# Altium footprint library Miscelaneos.PcbLib: 4 footprints
Each footprint in its own frame and in the unit in brackets; x right, y up, seen from the top. Pads: shape width x height; smd on the part's side, far side on the other; paste and mask are expansions set on the pad; w line width, h text height; cw(c..) or ccw(c..) is an arc to the next point about the centre after c.
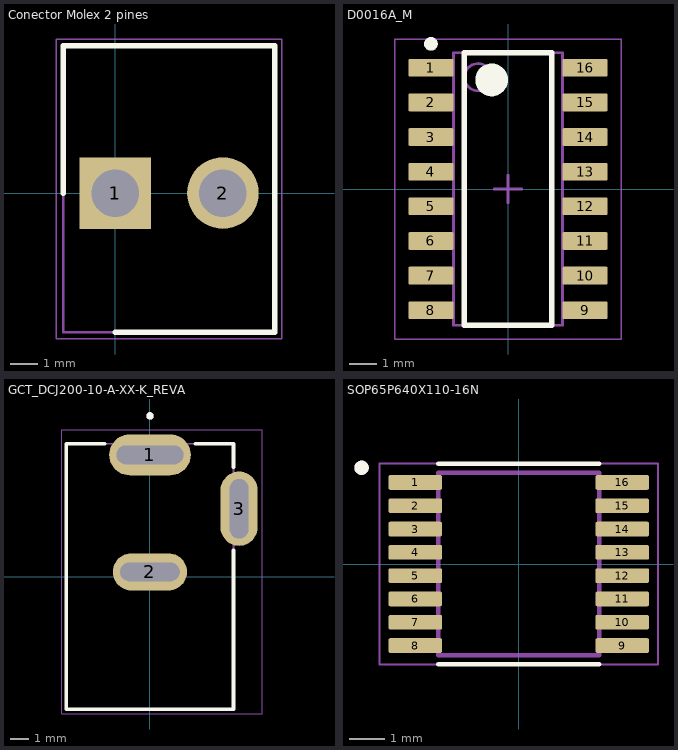
[diagram p0: the footprints below, top view; thin cyan lines are the x and y axes]

## Conector Molex 2 pines [mm]
pads (2):
  rect 2.625x2.625 / inner round 2.625 / far side rect 2.625x2.625 hole 1.75: 1(0,0)
  round 2.625 hole 1.75: 2(3.96,0)
Top Overlay:
  lines w0.2: -1.905,0 -1.905,5.41 5.865,5.41 5.865,-5.11 0,-5.11
Mechanical 15:
  lines w0.1: -1.905,-5.11 -1.905,5.41 5.865,5.41 5.865,-5.11 -1.905,-5.11
Mechanical 20:
  lines w0.05: -2.155,-5.36 -2.155,5.66 6.115,5.66 6.115,-5.36 -2.155,-5.36
3D body "26-60-4020.stp": height 14.73, standoff -3.56, extent -1.981,-5.048 5.791,4.959

## D0016A_M [mm] "SOIC, 16-Leads, Body 10x4mm, Pitch 1.27mm, IPC Low Density"
height 1.75
pads (16):
  rrect15% 1.65x0.65 smd: 1(-2.825,4.445) 2(-2.825,3.175) 3(-2.825,1.905) 4(-2.825,0.635) 5(-2.825,-0.635) 6(-2.825,-1.905) 7(-2.825,-3.175) 8(-2.825,-4.445) 9(2.825,-4.445) 10(2.825,-3.175) 11(2.825,-1.905) 12(2.825,-0.635) 13(2.825,0.635) 14(2.825,1.905) 15(2.825,3.175) 16(2.825,4.445)
Top Overlay:
  circle w0.25: c-2.825,5.32 r0.125
  circle w0.6: c-0.6,4 r0.3
  lines w0.2: -1.6,-5 -1.6,5 1.6,5 1.6,-5 -1.6,-5
Mechanical 1:
  text ".Designator" at -1.575,-0.35 h0.8
Mechanical 13:
  circle w0.1: c-1.1,4.1 r0.5
  lines w0.1: -2,-5 -2,5 2,5 2,-5 -2,-5
Mechanical 15:
  lines w0.05: -4.15,-5.5 -4.15,5.5 4.15,5.5 4.15,-5.5 -4.15,-5.5
  lines w0.1: -0.5,0 0.5,0 ; 0,-0.5 0,0.5
3D body "SOIC-16akaD0016AakaM16A.stp": height 1.59, standoff -0.01, extent -2.997,-4.953 2.997,4.953

## GCT_DCJ200-10-A-XX-K_REVA [mm]
height 11
pads (3):
  oval 4.4x2.2 hole 1 slot 3.6 at 0 deg: 1(0,6.55)
  oval 4x2 hole 1 slot 3.2 at 0 deg: 2(0,0.25)
  oval 2x4 hole 1 slot 3.2 at 90 deg: 3(4.8,3.65)
Top Overlay:
  circle w0.2: c0,8.65 r0.1
  lines w0.2: -2.45,7.15 -4.5,7.15 -4.5,-7.15 4.5,-7.15 4.5,1.4 ; 2.45,7.15 4.5,7.15 4.5,5.9
Mechanical 13:
  circle w0.2: c0,8.65 r0.1
  lines w0.1: -4.5,-7.15 -4.5,7.15 4.5,7.15 4.5,-7.15 -4.5,-7.15
Mechanical 15:
  lines w0.05: -4.75,-7.4 6.05,-7.4 6.05,7.9 -4.75,7.9 -4.75,-7.4
3D body "step_temp.STEP": height 11, standoff -3.5, extent -4.5,-7.15 5.05,7.15

## SOP65P640X110-16N [mm]
pads (16):
  rrect25% 1.5x0.41 smd: 1(-2.885,2.275) 2(-2.885,1.625) 3(-2.885,0.975) 4(-2.885,0.325) 5(-2.885,-0.325) 6(-2.885,-0.975) 7(-2.885,-1.625) 8(-2.885,-2.275) 9(2.885,-2.275) 10(2.885,-1.625) 11(2.885,-0.975) 12(2.885,-0.325) 13(2.885,0.325) 14(2.885,0.975) 15(2.885,1.625) 16(2.885,2.275)
Top Overlay:
  circle w0.2: c-4.385,2.685 r0.1
  lines w0.127: -2.25,-2.8 2.25,-2.8 ; -2.25,2.8 2.25,2.8
Mechanical 13:
  circle w0.2: c-4.385,2.685 r0.1
  lines w0.127: -2.25,-2.55 2.25,-2.55 2.25,2.55 -2.25,2.55 -2.25,-2.55
Mechanical 15:
  lines w0.05: -3.885,-2.8 3.885,-2.8 3.885,2.8 -3.885,2.8 -3.885,-2.8
3D body "step_temp.STEP": height 1.1, standoff 0, extent -3.2,-2.5 3.2,2.5